# EAGLE library part LT1054CP (library LT1054CP)
VOLTAGE CONVERTERS WITH REGULATORS
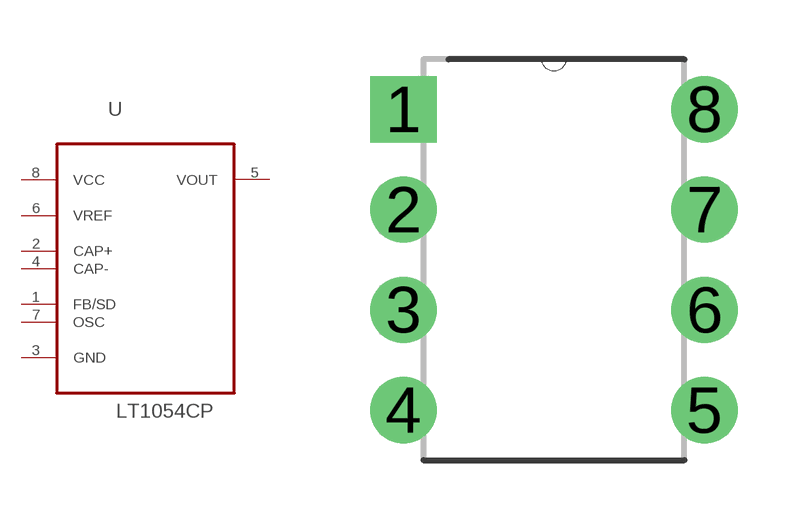
[diagram p0: symbol with the pads of DIP254P762X508-8; footprint DIP254P762X508-8]

Designator prefix U

## LT1054CP (Availability: Unavailable; MF: Texas Instruments; MP: LT1054CP; Package: DIP-8 Linear Technology; Price: None)  [DIP254P762X508-8]
1  FB/SD  in
2  CAP+  in
3  GND  pas
4  CAP-  in
5  VOUT  out
6  VREF  in
7  OSC  in
8  VCC  pwr

## Footprint DIP254P762X508-8 (pad centres in mm)
drill 1.118 square: 1 -7.62,7.62
drill 1.118: 2 -7.62,5.08; 3 -7.62,2.54; 4 -7.62,0; 5 0,0; 6 0,2.54; 7 0,5.08; 8 0,7.62